# Altium integrated library ON Semi Transient Voltage Suppressors (TVS).IntLib: 730 symbols (part 9 of 17)
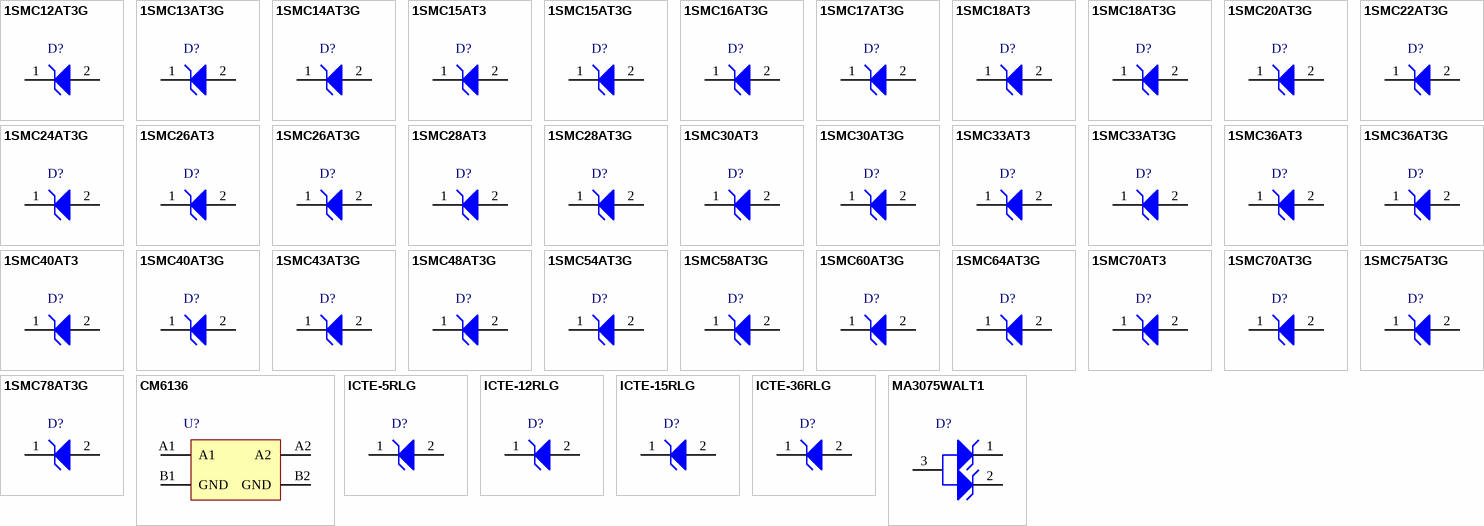
[diagram p26: symbols 1SMC12AT3G to MA3075WALT1]

## ICTE-15RLG
designator D?
1500 W Peak Power, Mosorb(TM) Zener Transient Voltage Suppressor, 2-Pin MOSORB, Pb-Free, Tape and Reel; Manufacturer: On Semiconductor; PartNumber: ICTE-15RLG; Direction: Unidirectional; IR Max (uA): 2; PPK Max (W): 1500; DatasheetVersion: Rev. 5; PackageVersion: Rev. D, 01/2002; PackageReference: MOSORB-2-41A-04; PackageDescription: 2-Pin, Axial Lead, Diameter 5.05 mm; Packing: Tape and Reel; RoHS: Pb-Free; Mounting Technology: Through Hole; ComponentLink1Description: Manufacturer URL; ComponentLink1URL: http://www.onsemi.com/; ComponentLink2Description: Datasheet; ComponentLink2URL: http://www.onsemi.com/pub_link/Collateral/1N6373-D.PDF; ComponentLink3Description: Package Specification; ComponentLink3URL: http://www.onsemi.com/pub_link/Collateral/41A-04.PDF
footprint ONSC-MOSORB-2-41A-04 (AXIAL, 2-Leads, Diameter 5.05mm)
pins: 1 K, 2 A

## ICTE-36RLG
designator D?
1500 W Peak Power, Mosorb(TM) Zener Transient Voltage Suppressor, 2-Pin MOSORB, Pb-Free, Tape and Reel; Manufacturer: On Semiconductor; PartNumber: ICTE-36RLG; Direction: Unidirectional; IR Max (uA): 2; PPK Max (W): 1500; DatasheetVersion: Rev. 5; PackageVersion: Rev. D, 01/2002; PackageReference: MOSORB-2-41A-04; PackageDescription: 2-Pin, Axial Lead, Diameter 5.05 mm; Packing: Tape and Reel; RoHS: Pb-Free; Mounting Technology: Through Hole; ComponentLink1Description: Manufacturer URL; ComponentLink1URL: http://www.onsemi.com/; ComponentLink2Description: Datasheet; ComponentLink2URL: http://www.onsemi.com/pub_link/Collateral/1N6373-D.PDF; ComponentLink3Description: Package Specification; ComponentLink3URL: http://www.onsemi.com/pub_link/Collateral/41A-04.PDF
footprint ONSC-MOSORB-2-41A-04 (AXIAL, 2-Leads, Diameter 5.05mm)
pins: 1 K, 2 A

## MA3075WALT1
designator D?
Zener Transient Voltage Suppressor, Dual Common Anode Zeners for ESD Protection, 2-Pin SOT-23, Tape and Reel; Manufacturer: On Semiconductor; PartNumber: MA3075WALT1; Direction: Unidirectional; PPK Max (W): 15; DatasheetVersion: Rev. 2; PackageVersion: Rev. AP, 11/2009; PackageReference: SOT-23-3-318-08; PackageDescription: 3-Pin Small Outline Transistor, Body 2.92 x 1.3 mm, Pitch 0.95 mm; Supplier 1: Digi-Key; Supplier Part Number 1: MA3075WALT1OS-ND; Packing: Tape and Reel; Mounting Technology: Surface Mount; ComponentLink1Description: Manufacturer URL; ComponentLink1URL: http://www.onsemi.com/; ComponentLink2Description: Datasheet; ComponentLink2URL: http://www.onsemi.com/pub_link/Collateral/MA3075WALT1-D.PDF; ComponentLink3Description: Package Specification; ComponentLink3URL: http://www.onsemi.cn/pub_link/Collateral/318-08.PDF
footprint ONSC-SOT-23-3-318-08_V (SOT23, 3-Leads, Body 2.92x1.3mm, Pitch 0.95mm)
pins: 1 K1, 2 K2, 3 A

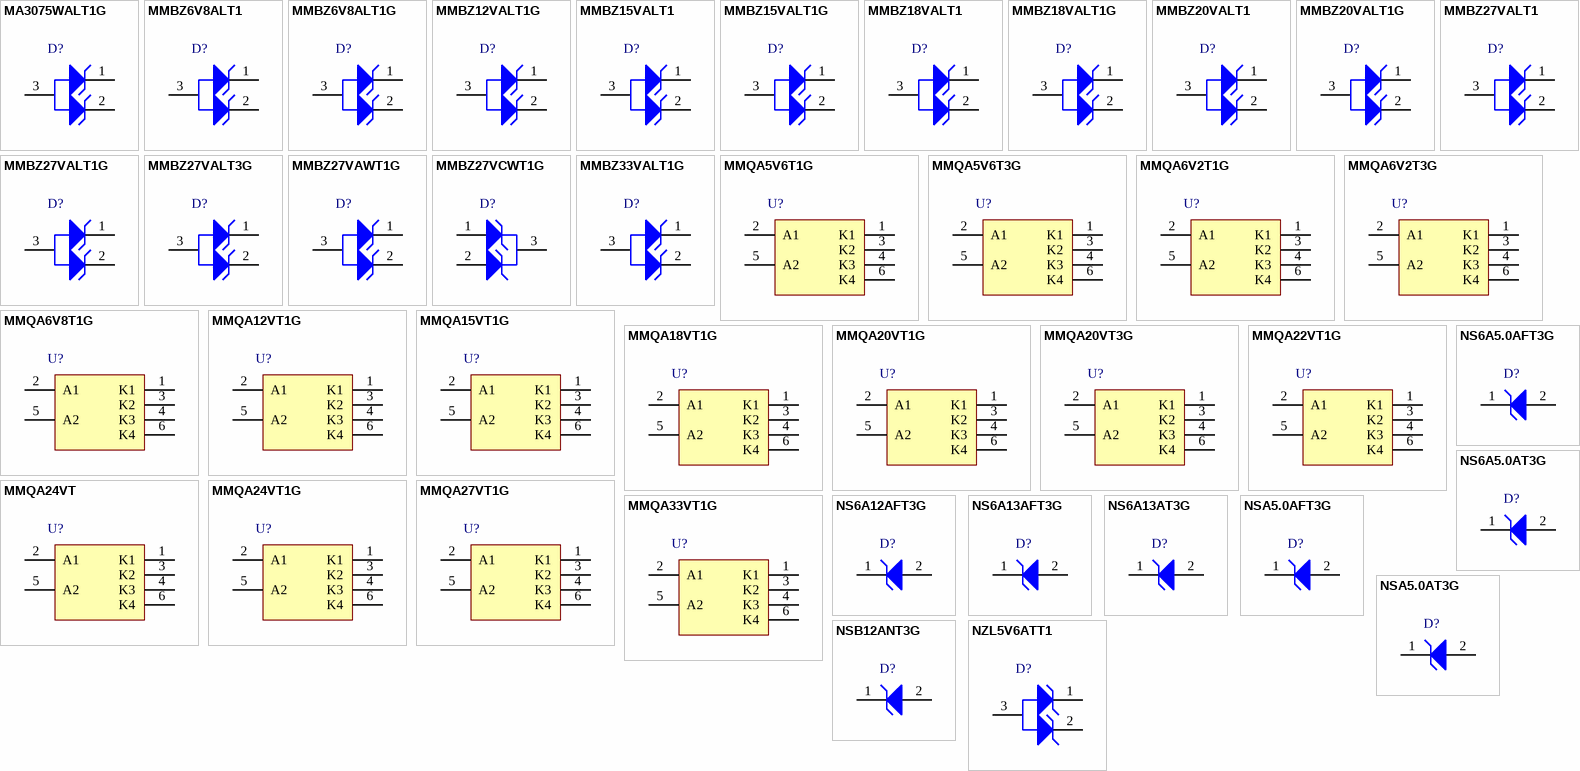
[diagram p9: symbols MA3075WALT1G to NZL5V6ATT1]

## MA3075WALT1G
designator D?
Zener Transient Voltage Suppressor, Dual Common Anode Zeners for ESD Protection, 2-Pin SOT-23, Pb-Free, Tape and Reel; Manufacturer: On Semiconductor; PartNumber: MA3075WALT1G; Direction: Unidirectional; PPK Max (W): 15; DatasheetVersion: Rev. 2; PackageVersion: Rev. AP, 11/2009; PackageReference: SOT-23-3-318-08; PackageDescription: 3-Pin Small Outline Transistor, Body 2.92 x 1.3 mm, Pitch 0.95 mm; Supplier 1: Digi-Key; Supplier Part Number 1: MA3075WALT1GOSTR-ND; Supplier 2: Digi-Key; Supplier Part Number 2: MA3075WALT1GOSCT-ND; Supplier 3: Digi-Key; Supplier Part Number 3: MA3075WALT1GOSDKR-ND; Supplier 4: Newark; Supplier Part Number 4: 32M0072; Supplier 5: Mouser; Supplier Part Number 5: 863-MA3075WALT1G; Packing: Tape and Reel; RoHS: Pb-Free; Mounting Technology: Surface Mount; ComponentLink1Description: Manufacturer URL; ComponentLink1URL: http://www.onsemi.com/; ComponentLink2Description: Datasheet; ComponentLink2URL: http://www.onsemi.com/pub_link/Collateral/MA3075WALT1-D.PDF; ComponentLink3Description: Package Specification; ComponentLink3URL: http://www.onsemi.cn/pub_link/Collateral/318-08.PDF
footprint ONSC-SOT-23-3-318-08_V (SOT23, 3-Leads, Body 2.92x1.3mm, Pitch 0.95mm)
pins: 1 K1, 2 K2, 3 A

## MMBZ6V8ALT1
designator D?
40 W Peak Power Zener Transient Voltage Suppressor, Dual Common Anode Zeners for ESD Protection, 3-Pin SOT-23, Tape and Reel; Manufacturer: On Semiconductor; PartNumber: MMBZ6V8ALT1; Direction: Unidirectional; IR Max (uA): 0.5; PPK Max (W): 24; V(BR) Typ (V): 6.8; DatasheetVersion: Rev. 13; PackageVersion: Rev. AP, 11/2009; PackageReference: SOT-23-3-318-08; PackageDescription: 3-Pin Small Outline Transistor, Body 2.92 x 1.3 mm, Pitch 0.95 mm; Supplier 1: Digi-Key; Supplier Part Number 1: MMBZ6V8ALT1OSTR-ND; Supplier 2: Digi-Key; Supplier Part Number 2: MMBZ6V8ALT1OSCT-ND; Packing: Tape and Reel; Mounting Technology: Surface Mount; ComponentLink1Description: Manufacturer URL; ComponentLink1URL: http://www.onsemi.com/; ComponentLink2Description: Datasheet; ComponentLink2URL: http://www.onsemi.com/pub_link/Collateral/MMBZ5V6ALT1-D.PDF; ComponentLink3Description: Package Specification; ComponentLink3URL: http://www.onsemi.cn/pub_link/Collateral/318-08.PDF
footprint ONSC-SOT-23-3-318-08_V (SOT23, 3-Leads, Body 2.92x1.3mm, Pitch 0.95mm)
pins: 1 K1, 2 K2, 3 A

## MMBZ6V8ALT1G
designator D?
40 W Peak Power Zener Transient Voltage Suppressor, Dual Common Anode Zeners for ESD Protection, 3-Pin SOT-23, Pb-Free, Tape and Reel; Manufacturer: On Semiconductor; PartNumber: MMBZ6V8ALT1G; Direction: Unidirectional; IR Max (uA): 0.5; PPK Max (W): 24; V(BR) Typ (V): 6.8; DatasheetVersion: Rev. 13; PackageVersion: Rev. AP, 11/2009; PackageReference: SOT-23-3-318-08; PackageDescription: 3-Pin Small Outline Transistor, Body 2.92 x 1.3 mm, Pitch 0.95 mm; Supplier 1: Digi-Key; Supplier Part Number 1: MMBZ6V8ALT1GOSTR-ND; Supplier 2: Digi-Key; Supplier Part Number 2: MMBZ6V8ALT1GOSCT-ND; Supplier 3: Digi-Key; Supplier Part Number 3: MMBZ6V8ALT1GOSDKR-ND; Supplier 4: Mouser; Supplier Part Number 4: 863-MMBZ6V8ALT1G; Packing: Tape and Reel; RoHS: Pb-Free; Mounting Technology: Surface Mount; ComponentLink1Description: Manufacturer URL; ComponentLink1URL: http://www.onsemi.com/; ComponentLink2Description: Datasheet; ComponentLink2URL: http://www.onsemi.com/pub_link/Collateral/MMBZ5V6ALT1-D.PDF; ComponentLink3Description: Package Specification; ComponentLink3URL: http://www.onsemi.cn/pub_link/Collateral/318-08.PDF
footprint ONSC-SOT-23-3-318-08_V (SOT23, 3-Leads, Body 2.92x1.3mm, Pitch 0.95mm)
pins: 1 K1, 2 K2, 3 A

## MMBZ12VALT1G
designator D?
40 W Peak Power Zener Transient Voltage Suppressor, Dual Common Anode Zeners for ESD Protection, 3-Pin SOT-23, Pb-Free, Tape and Reel; Manufacturer: On Semiconductor; PartNumber: MMBZ12VALT1G; Direction: Unidirectional; IR Max (uA): 0.2; PPK Max (W): 40; V(BR) Typ (V): 12; DatasheetVersion: Rev. 13; PackageVersion: Rev. AP, 11/2009; PackageReference: SOT-23-3-318-08; PackageDescription: 3-Pin Small Outline Transistor, Body 2.92 x 1.3 mm, Pitch 0.95 mm; Supplier 1: Digi-Key; Supplier Part Number 1: MMBZ12VALT1GOSTR-ND; Supplier 2: Digi-Key; Supplier Part Number 2: MMBZ12VALT1GOSCT-ND; Supplier 3: Digi-Key; Supplier Part Number 3: MMBZ12VALT1GOSDKR-ND; Supplier 4: Newark; Supplier Part Number 4: 45J1545; Supplier 5: Newark; Supplier Part Number 5: 10N9481; Supplier 6: Mouser; Supplier Part Number 6: 863-MMBZ12VALT1G; Packing: Tape and Reel; RoHS: Pb-Free; Mounting Technology: Surface Mount; ComponentLink1Description: Manufacturer URL; ComponentLink1URL: http://www.onsemi.com/; ComponentLink2Description: Datasheet; ComponentLink2URL: http://www.onsemi.com/pub_link/Collateral/MMBZ5V6ALT1-D.PDF; ComponentLink3Description: Package Specification; ComponentLink3URL: http://www.onsemi.cn/pub_link/Collateral/318-08.PDF
footprint ONSC-SOT-23-3-318-08_V (SOT23, 3-Leads, Body 2.92x1.3mm, Pitch 0.95mm)
pins: 1 K1, 2 K2, 3 A

## MMBZ15VALT1
designator D?
40 W Peak Power Zener Transient Voltage Suppressor, Dual Common Anode Zeners for ESD Protection, 3-Pin SOT-23, Tape and Reel; Manufacturer: On Semiconductor; PartNumber: MMBZ15VALT1; Direction: Unidirectional; IR Max (uA): 0.05; PPK Max (W): 40; V(BR) Typ (V): 15; DatasheetVersion: Rev. 13; PackageVersion: Rev. AP, 11/2009; PackageReference: SOT-23-3-318-08; PackageDescription: 3-Pin Small Outline Transistor, Body 2.92 x 1.3 mm, Pitch 0.95 mm; Supplier 1: Digi-Key; Supplier Part Number 1: MMBZ15VALT1OSCT-ND; Packing: Tape and Reel; Mounting Technology: Surface Mount; ComponentLink1Description: Manufacturer URL; ComponentLink1URL: http://www.onsemi.com/; ComponentLink2Description: Datasheet; ComponentLink2URL: http://www.onsemi.com/pub_link/Collateral/MMBZ5V6ALT1-D.PDF; ComponentLink3Description: Package Specification; ComponentLink3URL: http://www.onsemi.cn/pub_link/Collateral/318-08.PDF
footprint ONSC-SOT-23-3-318-08_V (SOT23, 3-Leads, Body 2.92x1.3mm, Pitch 0.95mm)
pins: 1 K1, 2 K2, 3 A

## MMBZ15VALT1G
designator D?
40 W Peak Power Zener Transient Voltage Suppressor, Dual Common Anode Zeners for ESD Protection, 3-Pin SOT-23, Pb-Free, Tape and Reel; Manufacturer: On Semiconductor; PartNumber: MMBZ15VALT1G; Direction: Unidirectional; IR Max (uA): 0.05; PPK Max (W): 40; V(BR) Typ (V): 15; DatasheetVersion: Rev. 13; PackageVersion: Rev. AP, 11/2009; PackageReference: SOT-23-3-318-08; PackageDescription: 3-Pin Small Outline Transistor, Body 2.92 x 1.3 mm, Pitch 0.95 mm; Supplier 1: Digi-Key; Supplier Part Number 1: MMBZ15VALT1GOSTR-ND; Supplier 2: Digi-Key; Supplier Part Number 2: MMBZ15VALT1GOSCT-ND; Supplier 3: Digi-Key; Supplier Part Number 3: MMBZ15VALT1GOSDKR-ND; Supplier 4: Farnell; Supplier Part Number 4: 1431226RL; Supplier 5: Farnell; Supplier Part Number 5: 2317792; Supplier 6: Newark; Supplier Part Number 6: 98H0759; Supplier 7: Newark; Supplier Part Number 7: 67R1347; Supplier 8: Mouser; Supplier Part Number 8: 863-MMBZ15VALT1G; Packing: Tape and Reel; RoHS: Pb-Free; Mounting Technology: Surface Mount; ComponentLink1Description: Manufacturer URL; ComponentLink1URL: http://www.onsemi.com/; ComponentLink2Description: Datasheet; ComponentLink2URL: http://www.onsemi.com/pub_link/Collateral/MMBZ5V6ALT1-D.PDF; ComponentLink3Description: Package Specification; ComponentLink3URL: http://www.onsemi.cn/pub_link/Collateral/318-08.PDF
footprint ONSC-SOT-23-3-318-08_V (SOT23, 3-Leads, Body 2.92x1.3mm, Pitch 0.95mm)
pins: 1 K1, 2 K2, 3 A

## MMBZ18VALT1
designator D?
40 W Peak Power Zener Transient Voltage Suppressor, Dual Common Anode Zeners for ESD Protection, 3-Pin SOT-23, Tape and Reel; Manufacturer: On Semiconductor; PartNumber: MMBZ18VALT1; Direction: Unidirectional; IR Max (uA): 0.05; PPK Max (W): 40; V(BR) Typ (V): 18; DatasheetVersion: Rev. 13; PackageVersion: Rev. AP, 11/2009; PackageReference: SOT-23-3-318-08; PackageDescription: 3-Pin Small Outline Transistor, Body 2.92 x 1.3 mm, Pitch 0.95 mm; Supplier 1: Digi-Key; Supplier Part Number 1: MMBZ18VALT1OS-ND; Packing: Tape and Reel; Mounting Technology: Surface Mount; ComponentLink1Description: Manufacturer URL; ComponentLink1URL: http://www.onsemi.com/; ComponentLink2Description: Datasheet; ComponentLink2URL: http://www.onsemi.com/pub_link/Collateral/MMBZ5V6ALT1-D.PDF; ComponentLink3Description: Package Specification; ComponentLink3URL: http://www.onsemi.cn/pub_link/Collateral/318-08.PDF
footprint ONSC-SOT-23-3-318-08_V (SOT23, 3-Leads, Body 2.92x1.3mm, Pitch 0.95mm)
pins: 1 K1, 2 K2, 3 A

## MMBZ18VALT1G
designator D?
40 W Peak Power Zener Transient Voltage Suppressor, Dual Common Anode Zeners for ESD Protection, 3-Pin SOT-23, Pb-Free, Tape and Reel; Manufacturer: On Semiconductor; PartNumber: MMBZ18VALT1G; Direction: Unidirectional; IR Max (uA): 0.05; PPK Max (W): 40; V(BR) Typ (V): 18; DatasheetVersion: Rev. 13; PackageVersion: Rev. AP, 11/2009; PackageReference: SOT-23-3-318-08; PackageDescription: 3-Pin Small Outline Transistor, Body 2.92 x 1.3 mm, Pitch 0.95 mm; Supplier 1: Digi-Key; Supplier Part Number 1: MMBZ18VALT1GOSTR-ND; Supplier 2: Digi-Key; Supplier Part Number 2: MMBZ18VALT1GOSCT-ND; Supplier 3: Digi-Key; Supplier Part Number 3: MMBZ18VALT1GOSDKR-ND; Supplier 4: Farnell; Supplier Part Number 4: 1431228; Supplier 5: Farnell; Supplier Part Number 5: 1431228RL; Supplier 6: Newark; Supplier Part Number 6: 98H0762; Supplier 7: Newark; Supplier Part Number 7: 10N9482; Supplier 8: Mouser; Supplier Part Number 8: 863-MMBZ18VALT1G; Packing: Tape and Reel; RoHS: Pb-Free; Mounting Technology: Surface Mount; ComponentLink1Description: Manufacturer URL; ComponentLink1URL: http://www.onsemi.com/; ComponentLink2Description: Datasheet; ComponentLink2URL: http://www.onsemi.com/pub_link/Collateral/MMBZ5V6ALT1-D.PDF; ComponentLink3Description: Package Specification; ComponentLink3URL: http://www.onsemi.cn/pub_link/Collateral/318-08.PDF
footprint ONSC-SOT-23-3-318-08_V (SOT23, 3-Leads, Body 2.92x1.3mm, Pitch 0.95mm)
pins: 1 K1, 2 K2, 3 A

## MMBZ20VALT1
designator D?
40 W Peak Power Zener Transient Voltage Suppressor, Dual Common Anode Zeners for ESD Protection, 3-Pin SOT-23, Tape and Reel; Manufacturer: On Semiconductor; PartNumber: MMBZ20VALT1; Direction: Unidirectional; IR Max (uA): 0.05; PPK Max (W): 40; V(BR) Typ (V): 20; DatasheetVersion: Rev. 13; PackageVersion: Rev. AP, 11/2009; PackageReference: SOT-23-3-318-08; PackageDescription: 3-Pin Small Outline Transistor, Body 2.92 x 1.3 mm, Pitch 0.95 mm; Supplier 1: Digi-Key; Supplier Part Number 1: MMBZ20VALT1OSCT-ND; Packing: Tape and Reel; Mounting Technology: Surface Mount; ComponentLink1Description: Manufacturer URL; ComponentLink1URL: http://www.onsemi.com/; ComponentLink2Description: Datasheet; ComponentLink2URL: http://www.onsemi.com/pub_link/Collateral/MMBZ5V6ALT1-D.PDF; ComponentLink3Description: Package Specification; ComponentLink3URL: http://www.onsemi.cn/pub_link/Collateral/318-08.PDF
footprint ONSC-SOT-23-3-318-08_V (SOT23, 3-Leads, Body 2.92x1.3mm, Pitch 0.95mm)
pins: 1 K1, 2 K2, 3 A

## MMBZ20VALT1G
designator D?
40 W Peak Power Zener Transient Voltage Suppressor, Dual Common Anode Zeners for ESD Protection, 3-Pin SOT-23, Pb-Free, Tape and Reel; Manufacturer: On Semiconductor; PartNumber: MMBZ20VALT1G; Direction: Unidirectional; IR Max (uA): 0.05; PPK Max (W): 40; V(BR) Typ (V): 20; DatasheetVersion: Rev. 13; PackageVersion: Rev. AP, 11/2009; PackageReference: SOT-23-3-318-08; PackageDescription: 3-Pin Small Outline Transistor, Body 2.92 x 1.3 mm, Pitch 0.95 mm; Supplier 1: Digi-Key; Supplier Part Number 1: MMBZ20VALT1GOSTR-ND; Supplier 2: Digi-Key; Supplier Part Number 2: MMBZ20VALT1GOSCT-ND; Supplier 3: Digi-Key; Supplier Part Number 3: MMBZ20VALT1GOSDKR-ND; Supplier 4: Farnell; Supplier Part Number 4: 1651641; Supplier 5: Farnell; Supplier Part Number 5: 1651641RL; Supplier 6: Newark; Supplier Part Number 6: 01M6734; Supplier 7: Newark; Supplier Part Number 7: 98H0763; Supplier 8: Mouser; Supplier Part Number 8: 863-MMBZ20VALT1G; Packing: Tape and Reel; RoHS: Pb-Free; Mounting Technology: Surface Mount; ComponentLink1Description: Manufacturer URL; ComponentLink1URL: http://www.onsemi.com/; ComponentLink2Description: Datasheet; ComponentLink2URL: http://www.onsemi.com/pub_link/Collateral/MMBZ5V6ALT1-D.PDF; ComponentLink3Description: Package Specification; ComponentLink3URL: http://www.onsemi.cn/pub_link/Collateral/318-08.PDF
footprint ONSC-SOT-23-3-318-08_V (SOT23, 3-Leads, Body 2.92x1.3mm, Pitch 0.95mm)
pins: 1 K1, 2 K2, 3 A

## MMBZ27VALT1
designator D?
40 W Peak Power Zener Transient Voltage Suppressor, Dual Common Anode Zeners for ESD Protection, 3-Pin SOT-23, Tape and Reel; Manufacturer: On Semiconductor; PartNumber: MMBZ27VALT1; Direction: Unidirectional; IR Max (uA): 0.05; PPK Max (W): 40; V(BR) Typ (V): 27; DatasheetVersion: Rev. 13; PackageVersion: Rev. AP, 11/2009; PackageReference: SOT-23-3-318-08; PackageDescription: 3-Pin Small Outline Transistor, Body 2.92 x 1.3 mm, Pitch 0.95 mm; Packing: Tape and Reel; Mounting Technology: Surface Mount; ComponentLink1Description: Manufacturer URL; ComponentLink1URL: http://www.onsemi.com/; ComponentLink2Description: Datasheet; ComponentLink2URL: http://www.onsemi.com/pub_link/Collateral/MMBZ5V6ALT1-D.PDF; ComponentLink3Description: Package Specification; ComponentLink3URL: http://www.onsemi.cn/pub_link/Collateral/318-08.PDF
footprint ONSC-SOT-23-3-318-08_V (SOT23, 3-Leads, Body 2.92x1.3mm, Pitch 0.95mm)
pins: 1 K1, 2 K2, 3 A

## MMBZ27VALT1G
designator D?
40 W Peak Power Zener Transient Voltage Suppressor, Dual Common Anode Zeners for ESD Protection, 3-Pin SOT-23, Pb-Free, Tape and Reel; Manufacturer: On Semiconductor; PartNumber: MMBZ27VALT1G; Direction: Unidirectional; IR Max (uA): 0.05; PPK Max (W): 40; V(BR) Typ (V): 27; DatasheetVersion: Rev. 13; PackageVersion: Rev. AP, 11/2009; PackageReference: SOT-23-3-318-08; PackageDescription: 3-Pin Small Outline Transistor, Body 2.92 x 1.3 mm, Pitch 0.95 mm; Supplier 1: Digi-Key; Supplier Part Number 1: MMBZ27VALT1GOSTR-ND; Supplier 2: Digi-Key; Supplier Part Number 2: MMBZ27VALT1GOSCT-ND; Supplier 3: Digi-Key; Supplier Part Number 3: MMBZ27VALT1GOSDKR-ND; Supplier 4: Farnell; Supplier Part Number 4: 1431229; Supplier 5: Farnell; Supplier Part Number 5: 1431229RL; Supplier 6: Newark; Supplier Part Number 6: 10N9483; Supplier 7: Newark; Supplier Part Number 7: 98H0765; Supplier 8: Mouser; Supplier Part Number 8: 863-MMBZ27VALT1G; Packing: Tape and Reel; RoHS: Pb-Free; Mounting Technology: Surface Mount; ComponentLink1Description: Manufacturer URL; ComponentLink1URL: http://www.onsemi.com/; ComponentLink2Description: Datasheet; ComponentLink2URL: http://www.onsemi.com/pub_link/Collateral/MMBZ5V6ALT1-D.PDF; ComponentLink3Description: Package Specification; ComponentLink3URL: http://www.onsemi.cn/pub_link/Collateral/318-08.PDF
footprint ONSC-SOT-23-3-318-08_V (SOT23, 3-Leads, Body 2.92x1.3mm, Pitch 0.95mm)
pins: 1 K1, 2 K2, 3 A

## MMBZ27VALT3G
designator D?
40 W Peak Power Zener Transient Voltage Suppressor, Dual Common Anode Zeners for ESD Protection, 3-Pin SOT-23, Pb-Free, Tape and Reel; Manufacturer: On Semiconductor; PartNumber: MMBZ27VALT3G; Direction: Unidirectional; IR Max (uA): 0.05; PPK Max (W): 40; V(BR) Typ (V): 27; DatasheetVersion: Rev. 13; PackageVersion: Rev. AP, 11/2009; PackageReference: SOT-23-3-318-08; PackageDescription: 3-Pin Small Outline Transistor, Body 2.92 x 1.3 mm, Pitch 0.95 mm; Supplier 1: Digi-Key; Supplier Part Number 1: MMBZ27VALT3G-ND; Supplier 2: Newark; Supplier Part Number 2: 50M2097; Supplier 3: Mouser; Supplier Part Number 3: 863-MMBZ27VALT3G; Packing: Tape and Reel; RoHS: Pb-Free; Mounting Technology: Surface Mount; ComponentLink1Description: Manufacturer URL; ComponentLink1URL: http://www.onsemi.com/; ComponentLink2Description: Datasheet; ComponentLink2URL: http://www.onsemi.com/pub_link/Collateral/MMBZ5V6ALT1-D.PDF; ComponentLink3Description: Package Specification; ComponentLink3URL: http://www.onsemi.cn/pub_link/Collateral/318-08.PDF
footprint ONSC-SOT-23-3-318-08_V (SOT23, 3-Leads, Body 2.92x1.3mm, Pitch 0.95mm)
pins: 1 K1, 2 K2, 3 A

## MMBZ27VAWT1G
designator D?
40 W Peak Power Zener Transient Voltage Suppressor, Dual Common Anode Zeners for ESD Protection, 3-Pin SC70, Pb-Free, Tape and Reel; Manufacturer: On Semiconductor; PartNumber: MMBZ27VAWT1G; Direction: Unidirectional; IR Max (uA): 0.05; PPK Max (W): 40; V(BR) Typ (V): 27; DatasheetVersion: Rev. 4; PackageVersion: Rev. N, 11/2008; PackageReference: SC-70-3-419-04; PackageDescription: 3-Pin Small Outline Transistor, Body 2 x 1.25 mm, Pitch 0.65 mm; Supplier 1: Digi-Key; Supplier Part Number 1: MMBZ27VAWT1G-ND; Supplier 2: Newark; Supplier Part Number 2: 01P4994; Supplier 3: Mouser; Supplier Part Number 3: 863-MMBZ27VAWT1G; Packing: Tape and Reel; RoHS: Pb-Free; Mounting Technology: Surface Mount; ComponentLink1Description: Manufacturer URL; ComponentLink1URL: http://www.onsemi.com/; ComponentLink2Description: Datasheet; ComponentLink2URL: http://www.onsemi.com/pub_link/Collateral/MMBZ27VAW-D.PDF; ComponentLink3Description: Package Specification; ComponentLink3URL: http://www.onsemi.cn/pub_link/Collateral/419-04.PDF
footprint ONSC-SC-70-3-419-04_V (SOT23, 3-Leads, Body 2x1.25mm, Pitch 0.65mm)
pins: 1 K1, 2 K2, 3 A

## MMBZ27VCWT1G
designator D?
40 W Peak Power Zener Transient Voltage Suppressor, Dual Common Cathode Zeners for ESD Protection, 3-Pin SC70, Pb-Free, Tape and Reel; Manufacturer: On Semiconductor; PartNumber: MMBZ27VCWT1G; Direction: Unidirectional; IR Max (uA): 0.05; PPK Max (W): 40; V(BR) Typ (V): 27; DatasheetVersion: Rev. 0; PackageVersion: Rev. N, 11/2008; PackageReference: SC-70-3-419-04; PackageDescription: 3-Pin Small Outline Transistor, Body 2 x 1.25 mm, Pitch 0.65 mm; Supplier 1: Digi-Key; Supplier Part Number 1: MMBZ27VCWT1G-ND; Supplier 2: Newark; Supplier Part Number 2: 01P4995; Supplier 3: Mouser; Supplier Part Number 3: 863-MMBZ27VCWT1G; Packing: Tape and Reel; RoHS: Pb-Free; Mounting Technology: Surface Mount; ComponentLink1Description: Manufacturer URL; ComponentLink1URL: http://www.onsemi.com/; ComponentLink2Description: Datasheet; ComponentLink2URL: http://www.onsemi.com/pub_link/Collateral/MMBZ27VCW-D.PDF; ComponentLink3Description: Package Specification; ComponentLink3URL: http://www.onsemi.cn/pub_link/Collateral/419-04.PDF
footprint ONSC-SC-70-3-419-04_V (SOT23, 3-Leads, Body 2x1.25mm, Pitch 0.65mm)
pins: 1 A1, 2 A2, 3 K

## MMBZ33VALT1G
designator D?
40 W Peak Power Zener Transient Voltage Suppressor, Dual Common Anode Zeners for ESD Protection, 3-Pin SOT-23, Pb-Free, Tape and Reel; Manufacturer: On Semiconductor; PartNumber: MMBZ33VALT1G; Direction: Unidirectional; IR Max (uA): 0.05; PPK Max (W): 40; V(BR) Typ (V): 33; DatasheetVersion: Rev. 13; PackageVersion: Rev. AP, 11/2009; PackageReference: SOT-23-3-318-08; PackageDescription: 3-Pin Small Outline Transistor, Body 2.92 x 1.3 mm, Pitch 0.95 mm; Supplier 1: Digi-Key; Supplier Part Number 1: MMBZ33VALT1GOSTR-ND; Supplier 2: Digi-Key; Supplier Part Number 2: MMBZ33VALT1GOSCT-ND; Supplier 3: Digi-Key; Supplier Part Number 3: MMBZ33VALT1GOSDKR-ND; Supplier 4: Farnell; Supplier Part Number 4: 1431231; Supplier 5: Farnell; Supplier Part Number 5: 1431231RL; Supplier 6: Farnell; Supplier Part Number 6: 2317785; Supplier 7: Newark; Supplier Part Number 7: 85W2815; Supplier 8: Newark; Supplier Part Number 8: 98H0767; Supplier 9: Mouser; Supplier Part Number 9: 863-MMBZ33VALT1G; Packing: Tape and Reel; RoHS: Pb-Free; Mounting Technology: Surface Mount; ComponentLink1Description: Manufacturer URL; ComponentLink1URL: http://www.onsemi.com/; ComponentLink2Description: Datasheet; ComponentLink2URL: http://www.onsemi.com/pub_link/Collateral/MMBZ5V6ALT1-D.PDF; ComponentLink3Description: Package Specification; ComponentLink3URL: http://www.onsemi.cn/pub_link/Collateral/318-08.PDF
footprint ONSC-SOT-23-3-318-08_V (SOT23, 3-Leads, Body 2.92x1.3mm, Pitch 0.95mm)
pins: 1 K1, 2 K2, 3 A

## MMQA5V6T1G
designator U?
Quad Monolithic Common Anode, Transient Voltage Suppressor for ESD Protection, 6-Pin SC-74, Pb-Free, Tape and Reel; Manufacturer: On Semiconductor; PartNumber: MMQA5V6T1G; Direction: Unidirectional; IR Max (uA): 2; V(BR) Typ (V): 5.6; DatasheetVersion: Rev. 10; PackageVersion: Rev. N, 06/2012; PackageReference: SC-74-6-318F-05; PackageDescription: 6-Pin Small Outline Transistor, Body 3 x 1.5 mm, Pitch 0.95 mm; Supplier 1: Digi-Key; Supplier Part Number 1: MMQA5V6T1GOSTR-ND; Supplier 2: Digi-Key; Supplier Part Number 2: MMQA5V6T1GOSCT-ND; Supplier 3: Digi-Key; Supplier Part Number 3: MMQA5V6T1GOSDKR-ND; Supplier 4: Farnell; Supplier Part Number 4: 1459113RL; Supplier 5: Newark; Supplier Part Number 5: 98H0804; Supplier 6: Mouser; Supplier Part Number 6: 863-MMQA5V6T1G; Packing: Tape and Reel; RoHS: Pb-Free; Mounting Technology: Surface Mount; ComponentLink1Description: Manufacturer URL; ComponentLink1URL: http://www.onsemi.com/; ComponentLink2Description: Datasheet; ComponentLink2URL: http://www.onsemi.com/pub_link/Collateral/MMQA-D.PDF; ComponentLink3Description: Package Specification; ComponentLink3URL: http://www.onsemi.com/pub_link/Collateral/318F-05.PDF
footprint ONSC-SC-74-6-318F-05_V (SOT23, 6-Leads, Body 3x1.5mm, Pitch 0.95mm)
pins: 1 K1, 2 A1, 3 K2, 4 K3, 5 A2, 6 K4

## MMQA5V6T3G
designator U?
Quad Monolithic Common Anode, Transient Voltage Suppressor for ESD Protection, 6-Pin SC-74, Pb-Free, Tape and Reel; Manufacturer: On Semiconductor; PartNumber: MMQA5V6T3G; Direction: Unidirectional; IR Max (uA): 2; V(BR) Typ (V): 5.6; DatasheetVersion: Rev. 10; PackageVersion: Rev. N, 06/2012; PackageReference: SC-74-6-318F-05; PackageDescription: 6-Pin Small Outline Transistor, Body 3 x 1.5 mm, Pitch 0.95 mm; Supplier 1: Digi-Key; Supplier Part Number 1: MMQA5V6T3G-ND; Supplier 2: Mouser; Supplier Part Number 2: 863-MMQA5V6T3G; Packing: Tape and Reel; RoHS: Pb-Free; Mounting Technology: Surface Mount; ComponentLink1Description: Manufacturer URL; ComponentLink1URL: http://www.onsemi.com/; ComponentLink2Description: Datasheet; ComponentLink2URL: http://www.onsemi.com/pub_link/Collateral/MMQA-D.PDF; ComponentLink3Description: Package Specification; ComponentLink3URL: http://www.onsemi.com/pub_link/Collateral/318F-05.PDF
footprint ONSC-SC-74-6-318F-05_V (SOT23, 6-Leads, Body 3x1.5mm, Pitch 0.95mm)
pins: 1 K1, 2 A1, 3 K2, 4 K3, 5 A2, 6 K4

## MMQA6V2T1G
designator U?
Quad Monolithic Common Anode, Transient Voltage Suppressor for ESD Protection, 6-Pin SC-74, Pb-Free, Tape and Reel; Manufacturer: On Semiconductor; PartNumber: MMQA6V2T1G; Direction: Unidirectional; IR Max (uA): 0.7; V(BR) Typ (V): 6.2; DatasheetVersion: Rev. 10; PackageVersion: Rev. N, 06/2012; PackageReference: SC-74-6-318F-05; PackageDescription: 6-Pin Small Outline Transistor, Body 3 x 1.5 mm, Pitch 0.95 mm; Supplier 1: Digi-Key; Supplier Part Number 1: MMQA6V2T1GOSTR-ND; Supplier 2: Digi-Key; Supplier Part Number 2: MMQA6V2T1GOSCT-ND; Supplier 3: Digi-Key; Supplier Part Number 3: MMQA6V2T1GOSDKR-ND; Supplier 4: Newark; Supplier Part Number 4: 45J1567; Supplier 5: Mouser; Supplier Part Number 5: 863-MMQA6V2T1G; Packing: Tape and Reel; RoHS: Pb-Free; Mounting Technology: Surface Mount; ComponentLink1Description: Manufacturer URL; ComponentLink1URL: http://www.onsemi.com/; ComponentLink2Description: Datasheet; ComponentLink2URL: http://www.onsemi.com/pub_link/Collateral/MMQA-D.PDF; ComponentLink3Description: Package Specification; ComponentLink3URL: http://www.onsemi.com/pub_link/Collateral/318F-05.PDF
footprint ONSC-SC-74-6-318F-05_V (SOT23, 6-Leads, Body 3x1.5mm, Pitch 0.95mm)
pins: 1 K1, 2 A1, 3 K2, 4 K3, 5 A2, 6 K4

## MMQA6V2T3G
designator U?
Quad Monolithic Common Anode, Transient Voltage Suppressor for ESD Protection, 6-Pin SC-74, Pb-Free, Tape and Reel; Manufacturer: On Semiconductor; PartNumber: MMQA6V2T3G; Direction: Unidirectional; IR Max (uA): 0.7; V(BR) Typ (V): 6.2; DatasheetVersion: Rev. 10; PackageVersion: Rev. N, 06/2012; PackageReference: SC-74-6-318F-05; PackageDescription: 6-Pin Small Outline Transistor, Body 3 x 1.5 mm, Pitch 0.95 mm; Supplier 1: Digi-Key; Supplier Part Number 1: MMQA6V2T3G-ND; Supplier 2: Mouser; Supplier Part Number 2: 863-MMQA6V2T3G; Packing: Tape and Reel; RoHS: Pb-Free; Mounting Technology: Surface Mount; ComponentLink1Description: Manufacturer URL; ComponentLink1URL: http://www.onsemi.com/; ComponentLink2Description: Datasheet; ComponentLink2URL: http://www.onsemi.com/pub_link/Collateral/MMQA-D.PDF; ComponentLink3Description: Package Specification; ComponentLink3URL: http://www.onsemi.com/pub_link/Collateral/318F-05.PDF
footprint ONSC-SC-74-6-318F-05_V (SOT23, 6-Leads, Body 3x1.5mm, Pitch 0.95mm)
pins: 1 K1, 2 A1, 3 K2, 4 K3, 5 A2, 6 K4

## MMQA6V8T1G
designator U?
Quad Monolithic Common Anode, Transient Voltage Suppressor for ESD Protection, 6-Pin SC-74, Pb-Free, Tape and Reel; Manufacturer: On Semiconductor; PartNumber: MMQA6V8T1G; Direction: Unidirectional; IR Max (uA): 0.5; V(BR) Typ (V): 6.8; DatasheetVersion: Rev. 10; PackageVersion: Rev. N, 06/2012; PackageReference: SC-74-6-318F-05; PackageDescription: 6-Pin Small Outline Transistor, Body 3 x 1.5 mm, Pitch 0.95 mm; Supplier 1: Digi-Key; Supplier Part Number 1: MMQA6V8T1GOSTR-ND; Supplier 2: Digi-Key; Supplier Part Number 2: MMQA6V8T1GOSCT-ND; Supplier 3: Digi-Key; Supplier Part Number 3: MMQA6V8T1GOSDKR-ND; Supplier 4: Mouser; Supplier Part Number 4: 863-MMQA6V8T1G; Packing: Tape and Reel; RoHS: Pb-Free; Mounting Technology: Surface Mount; ComponentLink1Description: Manufacturer URL; ComponentLink1URL: http://www.onsemi.com/; ComponentLink2Description: Datasheet; ComponentLink2URL: http://www.onsemi.com/pub_link/Collateral/MMQA-D.PDF; ComponentLink3Description: Package Specification; ComponentLink3URL: http://www.onsemi.com/pub_link/Collateral/318F-05.PDF
footprint ONSC-SC-74-6-318F-05_V (SOT23, 6-Leads, Body 3x1.5mm, Pitch 0.95mm)
pins: 1 K1, 2 A1, 3 K2, 4 K3, 5 A2, 6 K4

## MMQA12VT1G
designator U?
Quad Monolithic Common Anode, Transient Voltage Suppressor for ESD Protection, 6-Pin SC-74, Pb-Free, Tape and Reel; Manufacturer: On Semiconductor; PartNumber: MMQA12VT1G; Direction: Unidirectional; IR Max (uA): 0.075; V(BR) Typ (V): 12; DatasheetVersion: Rev. 10; PackageVersion: Rev. N, 06/2012; PackageReference: SC-74-6-318F-05; PackageDescription: 6-Pin Small Outline Transistor, Body 3 x 1.5 mm, Pitch 0.95 mm; Supplier 1: Digi-Key; Supplier Part Number 1: MMQA12VT1GOSTR-ND; Supplier 2: Digi-Key; Supplier Part Number 2: MMQA12VT1GOSCT-ND; Supplier 3: Digi-Key; Supplier Part Number 3: MMQA12VT1GOSDKR-ND; Supplier 4: Farnell; Supplier Part Number 4: 1899523; Supplier 5: Newark; Supplier Part Number 5: 09R9473; Supplier 6: Mouser; Supplier Part Number 6: 863-MMQA12VT1G; Packing: Tape and Reel; RoHS: Pb-Free; Mounting Technology: Surface Mount; ComponentLink1Description: Manufacturer URL; ComponentLink1URL: http://www.onsemi.com/; ComponentLink2Description: Datasheet; ComponentLink2URL: http://www.onsemi.com/pub_link/Collateral/MMQA-D.PDF; ComponentLink3Description: Package Specification; ComponentLink3URL: http://www.onsemi.com/pub_link/Collateral/318F-05.PDF
footprint ONSC-SC-74-6-318F-05_V (SOT23, 6-Leads, Body 3x1.5mm, Pitch 0.95mm)
pins: 1 K1, 2 A1, 3 K2, 4 K3, 5 A2, 6 K4

## MMQA15VT1G
designator U?
Quad Monolithic Common Anode, Transient Voltage Suppressor for ESD Protection, 6-Pin SC-74, Pb-Free, Tape and Reel; Manufacturer: On Semiconductor; PartNumber: MMQA15VT1G; Direction: Unidirectional; IR Max (uA): 0.075; V(BR) Typ (V): 15; DatasheetVersion: Rev. 10; PackageVersion: Rev. N, 06/2012; PackageReference: SC-74-6-318F-05; PackageDescription: 6-Pin Small Outline Transistor, Body 3 x 1.5 mm, Pitch 0.95 mm; Supplier 1: Digi-Key; Supplier Part Number 1: MMQA15VT1G-ND; Supplier 2: Mouser; Supplier Part Number 2: 863-MMQA15VT1G; Packing: Tape and Reel; RoHS: Pb-Free; Mounting Technology: Surface Mount; ComponentLink1Description: Manufacturer URL; ComponentLink1URL: http://www.onsemi.com/; ComponentLink2Description: Datasheet; ComponentLink2URL: http://www.onsemi.com/pub_link/Collateral/MMQA-D.PDF; ComponentLink3Description: Package Specification; ComponentLink3URL: http://www.onsemi.com/pub_link/Collateral/318F-05.PDF
footprint ONSC-SC-74-6-318F-05_V (SOT23, 6-Leads, Body 3x1.5mm, Pitch 0.95mm)
pins: 1 K1, 2 A1, 3 K2, 4 K3, 5 A2, 6 K4

## MMQA18VT1G
designator U?
Quad Monolithic Common Anode, Transient Voltage Suppressor for ESD Protection, 6-Pin SC-74, Pb-Free, Tape and Reel; Manufacturer: On Semiconductor; PartNumber: MMQA18VT1G; Direction: Unidirectional; IR Max (uA): 0.075; V(BR) Typ (V): 18; DatasheetVersion: Rev. 10; PackageVersion: Rev. N, 06/2012; PackageReference: SC-74-6-318F-05; PackageDescription: 6-Pin Small Outline Transistor, Body 3 x 1.5 mm, Pitch 0.95 mm; Supplier 1: Digi-Key; Supplier Part Number 1: MMQA18VT1GOSTR-ND; Supplier 2: Digi-Key; Supplier Part Number 2: MMQA18VT1GOSCT-ND; Supplier 3: Digi-Key; Supplier Part Number 3: MMQA18VT1GOSDKR-ND; Supplier 4: Newark; Supplier Part Number 4: 45J1564; Supplier 5: Mouser; Supplier Part Number 5: 863-MMQA18VT1G; Packing: Tape and Reel; RoHS: Pb-Free; Mounting Technology: Surface Mount; ComponentLink1Description: Manufacturer URL; ComponentLink1URL: http://www.onsemi.com/; ComponentLink2Description: Datasheet; ComponentLink2URL: http://www.onsemi.com/pub_link/Collateral/MMQA-D.PDF; ComponentLink3Description: Package Specification; ComponentLink3URL: http://www.onsemi.com/pub_link/Collateral/318F-05.PDF
footprint ONSC-SC-74-6-318F-05_V (SOT23, 6-Leads, Body 3x1.5mm, Pitch 0.95mm)
pins: 1 K1, 2 A1, 3 K2, 4 K3, 5 A2, 6 K4

## MMQA20VT1G
designator U?
Quad Monolithic Common Anode, Transient Voltage Suppressor for ESD Protection, 6-Pin SC-74, Pb-Free, Tape and Reel; Manufacturer: On Semiconductor; PartNumber: MMQA20VT1G; Direction: Unidirectional; IR Max (uA): 0.075; V(BR) Typ (V): 20; DatasheetVersion: Rev. 10; PackageVersion: Rev. N, 06/2012; PackageReference: SC-74-6-318F-05; PackageDescription: 6-Pin Small Outline Transistor, Body 3 x 1.5 mm, Pitch 0.95 mm; Supplier 1: Digi-Key; Supplier Part Number 1: MMQA20VT1GOSTR-ND; Supplier 2: Digi-Key; Supplier Part Number 2: MMQA20VT1GOSCT-ND; Supplier 3: Digi-Key; Supplier Part Number 3: MMQA20VT1GOSDKR-ND; Supplier 4: Mouser; Supplier Part Number 4: 863-MMQA20VT1G; Packing: Tape and Reel; RoHS: Pb-Free; Mounting Technology: Surface Mount; ComponentLink1Description: Manufacturer URL; ComponentLink1URL: http://www.onsemi.com/; ComponentLink2Description: Datasheet; ComponentLink2URL: http://www.onsemi.com/pub_link/Collateral/MMQA-D.PDF; ComponentLink3Description: Package Specification; ComponentLink3URL: http://www.onsemi.com/pub_link/Collateral/318F-05.PDF
footprint ONSC-SC-74-6-318F-05_V (SOT23, 6-Leads, Body 3x1.5mm, Pitch 0.95mm)
pins: 1 K1, 2 A1, 3 K2, 4 K3, 5 A2, 6 K4

## MMQA20VT3G
designator U?
Quad Monolithic Common Anode, Transient Voltage Suppressor for ESD Protection, 6-Pin SC-74, Pb-Free, Tape and Reel; Manufacturer: On Semiconductor; PartNumber: MMQA20VT3G; Direction: Unidirectional; IR Max (uA): 0.075; V(BR) Typ (V): 20; DatasheetVersion: Rev. 10; PackageVersion: Rev. N, 06/2012; PackageReference: SC-74-6-318F-05; PackageDescription: 6-Pin Small Outline Transistor, Body 3 x 1.5 mm, Pitch 0.95 mm; Supplier 1: Digi-Key; Supplier Part Number 1: MMQA20VT3G-ND; Supplier 2: Mouser; Supplier Part Number 2: 863-MMQA20VT3G; Packing: Tape and Reel; RoHS: Pb-Free; Mounting Technology: Surface Mount; ComponentLink1Description: Manufacturer URL; ComponentLink1URL: http://www.onsemi.com/; ComponentLink2Description: Datasheet; ComponentLink2URL: http://www.onsemi.com/pub_link/Collateral/MMQA-D.PDF; ComponentLink3Description: Package Specification; ComponentLink3URL: http://www.onsemi.com/pub_link/Collateral/318F-05.PDF
footprint ONSC-SC-74-6-318F-05_V (SOT23, 6-Leads, Body 3x1.5mm, Pitch 0.95mm)
pins: 1 K1, 2 A1, 3 K2, 4 K3, 5 A2, 6 K4

## MMQA22VT1G
designator U?
Quad Monolithic Common Anode, Transient Voltage Suppressor for ESD Protection, 6-Pin SC-74, Pb-Free, Tape and Reel; Manufacturer: On Semiconductor; PartNumber: MMQA22VT1G; Direction: Unidirectional; IR Max (uA): 0.075; V(BR) Typ (V): 22; DatasheetVersion: Rev. 10; PackageVersion: Rev. N, 06/2012; PackageReference: SC-74-6-318F-05; PackageDescription: 6-Pin Small Outline Transistor, Body 3 x 1.5 mm, Pitch 0.95 mm; Supplier 1: Digi-Key; Supplier Part Number 1: MMQA22VT1G-ND; Supplier 2: Mouser; Supplier Part Number 2: 863-MMQA22VT1G; Packing: Tape and Reel; RoHS: Pb-Free; Mounting Technology: Surface Mount; ComponentLink1Description: Manufacturer URL; ComponentLink1URL: http://www.onsemi.com/; ComponentLink2Description: Datasheet; ComponentLink2URL: http://www.onsemi.com/pub_link/Collateral/MMQA-D.PDF; ComponentLink3Description: Package Specification; ComponentLink3URL: http://www.onsemi.com/pub_link/Collateral/318F-05.PDF
footprint ONSC-SC-74-6-318F-05_V (SOT23, 6-Leads, Body 3x1.5mm, Pitch 0.95mm)
pins: 1 K1, 2 A1, 3 K2, 4 K3, 5 A2, 6 K4

## MMQA24VT
designator U?
Quad Monolithic Common Anode, Transient Voltage Suppressor for ESD Protection, 6-Pin SC-74, Tape and Reel; Manufacturer: On Semiconductor; PartNumber: MMQA24VT; Direction: Unidirectional; IR Max (uA): 0.075; V(BR) Typ (V): 24; DatasheetVersion: Rev. 10; PackageVersion: Rev. N, 06/2012; PackageReference: SC-74-6-318F-05; PackageDescription: 6-Pin Small Outline Transistor, Body 3 x 1.5 mm, Pitch 0.95 mm; Packing: Tape and Reel; Mounting Technology: Surface Mount; ComponentLink1Description: Manufacturer URL; ComponentLink1URL: http://www.onsemi.com/; ComponentLink2Description: Datasheet; ComponentLink2URL: http://www.onsemi.com/pub_link/Collateral/MMQA-D.PDF; ComponentLink3Description: Package Specification; ComponentLink3URL: http://www.onsemi.com/pub_link/Collateral/318F-05.PDF
footprint ONSC-SC-74-6-318F-05_V (SOT23, 6-Leads, Body 3x1.5mm, Pitch 0.95mm)
pins: 1 K1, 2 A1, 3 K2, 4 K3, 5 A2, 6 K4

## MMQA24VT1G
designator U?
Quad Monolithic Common Anode, Transient Voltage Suppressor for ESD Protection, 6-Pin SC-74, Pb-Free, Tape and Reel; Manufacturer: On Semiconductor; PartNumber: MMQA24VT1G; Direction: Unidirectional; IR Max (uA): 0.075; V(BR) Typ (V): 24; DatasheetVersion: Rev. 10; PackageVersion: Rev. N, 06/2012; PackageReference: SC-74-6-318F-05; PackageDescription: 6-Pin Small Outline Transistor, Body 3 x 1.5 mm, Pitch 0.95 mm; Supplier 1: Digi-Key; Supplier Part Number 1: MMQA24VT1GOSTR-ND; Supplier 2: Digi-Key; Supplier Part Number 2: MMQA24VT1GOSCT-ND; Supplier 3: Newark; Supplier Part Number 3: 26K4559; Supplier 4: Mouser; Supplier Part Number 4: 863-MMQA24VT1G; Packing: Tape and Reel; RoHS: Pb-Free; Mounting Technology: Surface Mount; ComponentLink1Description: Manufacturer URL; ComponentLink1URL: http://www.onsemi.com/; ComponentLink2Description: Datasheet; ComponentLink2URL: http://www.onsemi.com/pub_link/Collateral/MMQA-D.PDF; ComponentLink3Description: Package Specification; ComponentLink3URL: http://www.onsemi.com/pub_link/Collateral/318F-05.PDF
footprint ONSC-SC-74-6-318F-05_V (SOT23, 6-Leads, Body 3x1.5mm, Pitch 0.95mm)
pins: 1 K1, 2 A1, 3 K2, 4 K3, 5 A2, 6 K4

## MMQA27VT1G
designator U?
Quad Monolithic Common Anode, Transient Voltage Suppressor for ESD Protection, 6-Pin SC-74, Pb-Free, Tape and Reel; Manufacturer: On Semiconductor; PartNumber: MMQA27VT1G; Direction: Unidirectional; IR Max (uA): 0.075; V(BR) Typ (V): 27; DatasheetVersion: Rev. 10; PackageVersion: Rev. N, 06/2012; PackageReference: SC-74-6-318F-05; PackageDescription: 6-Pin Small Outline Transistor, Body 3 x 1.5 mm, Pitch 0.95 mm; Supplier 1: Digi-Key; Supplier Part Number 1: MMQA27VT1GOSTR-ND; Supplier 2: Digi-Key; Supplier Part Number 2: MMQA27VT1GOSCT-ND; Supplier 3: Digi-Key; Supplier Part Number 3: MMQA27VT1GOSDKR-ND; Supplier 4: Newark; Supplier Part Number 4: 26K4560; Supplier 5: Mouser; Supplier Part Number 5: 863-MMQA27VT1G; Packing: Tape and Reel; RoHS: Pb-Free; Mounting Technology: Surface Mount; ComponentLink1Description: Manufacturer URL; ComponentLink1URL: http://www.onsemi.com/; ComponentLink2Description: Datasheet; ComponentLink2URL: http://www.onsemi.com/pub_link/Collateral/MMQA-D.PDF; ComponentLink3Description: Package Specification; ComponentLink3URL: http://www.onsemi.com/pub_link/Collateral/318F-05.PDF
footprint ONSC-SC-74-6-318F-05_V (SOT23, 6-Leads, Body 3x1.5mm, Pitch 0.95mm)
pins: 1 K1, 2 A1, 3 K2, 4 K3, 5 A2, 6 K4

## MMQA33VT1G
designator U?
Quad Monolithic Common Anode, Transient Voltage Suppressor for ESD Protection, 6-Pin SC-74, Pb-Free, Tape and Reel; Manufacturer: On Semiconductor; PartNumber: MMQA33VT1G; Direction: Unidirectional; IR Max (uA): 0.075; V(BR) Typ (V): 33; DatasheetVersion: Rev. 10; PackageVersion: Rev. N, 06/2012; PackageReference: SC-74-6-318F-05; PackageDescription: 6-Pin Small Outline Transistor, Body 3 x 1.5 mm, Pitch 0.95 mm; Supplier 1: Digi-Key; Supplier Part Number 1: MMQA33VT1GOSTR-ND; Supplier 2: Digi-Key; Supplier Part Number 2: MMQA33VT1GOSCT-ND; Supplier 3: Digi-Key; Supplier Part Number 3: MMQA33VT1GOSDKR-ND; Supplier 4: Farnell; Supplier Part Number 4: 2317786; Supplier 5: Farnell; Supplier Part Number 5: 1886877; Supplier 6: Newark; Supplier Part Number 6: 09R9476; Supplier 7: Newark; Supplier Part Number 7: 42K1365; Supplier 8: Mouser; Supplier Part Number 8: 863-MMQA33VT1G; Packing: Tape and Reel; RoHS: Pb-Free; Mounting Technology: Surface Mount; ComponentLink1Description: Manufacturer URL; ComponentLink1URL: http://www.onsemi.com/; ComponentLink2Description: Datasheet; ComponentLink2URL: http://www.onsemi.com/pub_link/Collateral/MMQA-D.PDF; ComponentLink3Description: Package Specification; ComponentLink3URL: http://www.onsemi.com/pub_link/Collateral/318F-05.PDF
footprint ONSC-SC-74-6-318F-05_V (SOT23, 6-Leads, Body 3x1.5mm, Pitch 0.95mm)
pins: 1 K1, 2 A1, 3 K2, 4 K3, 5 A2, 6 K4

## NS6A5.0AFT3G
designator D?
600 W Peak Power Zener Transient Voltage Suppressor, Unidirectional, 2-Pin SMA-FL, Pb-Free, Tape and Reel; Manufacturer: On Semiconductor; PartNumber: NS6A5.0AFT3G; IR Max (uA): 800; PPK Max (W): 600; V(BR) Typ (V): 6.7; DatasheetVersion: Rev. 0; PackageVersion: Rev. O, 03/2011; PackageReference: SMA-FL-2-403AA-01; PackageDescription: 2-Pin Small Molded Package, Body 2.6 x 4.3 mm; Supplier 1: Newark; Supplier Part Number 1: 72W2317; Supplier 2: Mouser; Supplier Part Number 2: 863-NS6A5.0AFT3G; Direction: Unidirectional; Packing: Tape and Reel; RoHS: Pb-Free; Mounting Technology: Surface Mount; ComponentLink1Description: Manufacturer URL; ComponentLink1URL: http://www.onsemi.com/; ComponentLink2Description: Datasheet; ComponentLink2URL: http://www.onsemi.com/pub_link/Collateral/NS6A5.0AF-D.PDF; ComponentLink3Description: Package Specification; ComponentLink3URL: http://www.onsemi.com/pub_link/Collateral/403AA.PDF
footprint ONSC-SMA-FL-2-403AA-01_V (Molded, 2-Leads, Body 4.6x2.8mm)
pins: 1 K, 2 A

## NS6A5.0AT3G
designator D?
600 W Peak Power Zener Transient Voltage Suppressor, Unidirectional, 2-Pin SMA, Pb-Free, Tape and Reel; Manufacturer: On Semiconductor; PartNumber: NS6A5.0AT3G; IR Max (uA): 800; PPK Max (W): 600; V(BR) Typ (V): 6.7; DatasheetVersion: Rev. 1; PackageVersion: Rev. F, 11/2008; PackageReference: SMA-2-403D-02_F; PackageDescription: 2-Pin Small Molded Package, J-Bend Lead, Body 2.605 x 4.315 mm; Supplier 1: Digi-Key; Supplier Part Number 1: NS6A5.0AT3G-ND; Supplier 2: Newark; Supplier Part Number 2: 46P8329; Supplier 3: Mouser; Supplier Part Number 3: 863-NS6A5.0AT3G; Direction: Unidirectional; Packing: Tape and Reel; RoHS: Pb-Free; Mounting Technology: Surface Mount; ComponentLink1Description: Manufacturer URL; ComponentLink1URL: http://www.onsemi.com/; ComponentLink2Description: Datasheet; ComponentLink2URL: http://www.onsemi.com/pub_link/Collateral/NS6A5.0A-D.PDF; ComponentLink3Description: Package Specification; ComponentLink3URL: http://www.onsemi.com/pub_link/Collateral/1SMA5913BT3-D.PDF
footprint ONSC-SMA-2-403D-02_F_V (Molded, 2-Leads, Body 4.32x2.6mm)
pins: 1 K, 2 A

## NS6A12AFT3G
designator D?
600 W Peak Power Zener Transient Voltage Suppressor, Unidirectional, 2-Pin SMA-FL, Pb-Free, Tape and Reel; Manufacturer: On Semiconductor; PartNumber: NS6A12AFT3G; IR Max (uA): 0.5; PPK Max (W): 600; V(BR) Typ (V): 14; DatasheetVersion: Rev. 0; PackageVersion: Rev. O, 03/2011; PackageReference: SMA-FL-2-403AA-01; PackageDescription: 2-Pin Small Molded Package, Body 2.6 x 4.3 mm; Supplier 1: Newark; Supplier Part Number 1: 72W2315; Supplier 2: Mouser; Supplier Part Number 2: 863-NS6A12AFT3G; Direction: Unidirectional; Packing: Tape and Reel; RoHS: Pb-Free; Mounting Technology: Surface Mount; ComponentLink1Description: Manufacturer URL; ComponentLink1URL: http://www.onsemi.com/; ComponentLink2Description: Datasheet; ComponentLink2URL: http://www.onsemi.com/pub_link/Collateral/NS6A5.0AF-D.PDF; ComponentLink3Description: Package Specification; ComponentLink3URL: http://www.onsemi.com/pub_link/Collateral/403AA.PDF
footprint ONSC-SMA-FL-2-403AA-01_V (Molded, 2-Leads, Body 4.6x2.8mm)
pins: 1 K, 2 A

## NS6A13AFT3G
designator D?
600 W Peak Power Zener Transient Voltage Suppressor, Unidirectional, 2-Pin SMA-FL, Pb-Free, Tape and Reel; Manufacturer: On Semiconductor; PartNumber: NS6A13AFT3G; IR Max (uA): 5; PPK Max (W): 600; V(BR) Typ (V): 15.15; DatasheetVersion: Rev. 0; PackageVersion: Rev. O, 03/2011; PackageReference: SMA-FL-2-403AA-01; PackageDescription: 2-Pin Small Molded Package, Body 2.6 x 4.3 mm; Supplier 1: Newark; Supplier Part Number 1: 72W2316; Supplier 2: Mouser; Supplier Part Number 2: 863-NS6A13AFT3G; Direction: Unidirectional; Packing: Tape and Reel; RoHS: Pb-Free; Mounting Technology: Surface Mount; ComponentLink1Description: Manufacturer URL; ComponentLink1URL: http://www.onsemi.com/; ComponentLink2Description: Datasheet; ComponentLink2URL: http://www.onsemi.com/pub_link/Collateral/NS6A5.0AF-D.PDF; ComponentLink3Description: Package Specification; ComponentLink3URL: http://www.onsemi.com/pub_link/Collateral/403AA.PDF
footprint ONSC-SMA-FL-2-403AA-01_V (Molded, 2-Leads, Body 4.6x2.8mm)
pins: 1 K, 2 A

## NS6A13AT3G
designator D?
600 W Peak Power Zener Transient Voltage Suppressor, Unidirectional, 2-Pin SMA, Pb-Free, Tape and Reel; Manufacturer: On Semiconductor; PartNumber: NS6A13AT3G; IR Max (uA): 5; PPK Max (W): 600; V(BR) Typ (V): 15.15; DatasheetVersion: Rev. 1; PackageVersion: Rev. F, 11/2008; PackageReference: SMA-2-403D-02_F; PackageDescription: 2-Pin Small Molded Package, J-Bend Lead, Body 2.605 x 4.315 mm; Supplier 1: Digi-Key; Supplier Part Number 1: NS6A13AT3G-ND; Supplier 2: Mouser; Supplier Part Number 2: 863-NS6A13AT3G; Direction: Unidirectional; Packing: Tape and Reel; RoHS: Pb-Free; Mounting Technology: Surface Mount; ComponentLink1Description: Manufacturer URL; ComponentLink1URL: http://www.onsemi.com/; ComponentLink2Description: Datasheet; ComponentLink2URL: http://www.onsemi.com/pub_link/Collateral/NS6A13A-D.PDF; ComponentLink3Description: Package Specification; ComponentLink3URL: http://www.onsemi.com/pub_link/Collateral/1SMA5913BT3-D.PDF
footprint ONSC-SMA-2-403D-02_F_V (Molded, 2-Leads, Body 4.32x2.6mm)
pins: 1 K, 2 A

## NSA5.0AFT3G
designator D?
400 W Peak Power Zener Transient Voltage Suppressor, Unidirectional, 2-Pin SMA, Pb-Free, Tape and Reel; Manufacturer: On Semiconductor; PartNumber: NSA5.0AFT3G; IR Max (uA): 400; V(BR) Typ (V): 6.7; DatasheetVersion: Rev. 0; PackageVersion: Rev. O, 03/2011; PackageReference: SMA-FL-2-403AA-01; PackageDescription: 2-Pin Small Molded Package, Body 2.6 x 4.3 mm; Supplier 1: Newark; Supplier Part Number 1: 76T6689; Supplier 2: Mouser; Supplier Part Number 2: 863-NSA5.0AFT3G; Direction: Unidirectional; Packing: Tape and Reel; PPK Max (W): 400; RoHS: Pb-Free; Mounting Technology: Surface Mount; ComponentLink1Description: Manufacturer URL; ComponentLink1URL: http://www.onsemi.com/; ComponentLink2Description: Datasheet; ComponentLink2URL: http://www.onsemi.com/pub_link/Collateral/NSA5.0AF-D.PDF; ComponentLink3Description: Package Specification; ComponentLink3URL: http://www.onsemi.com/pub_link/Collateral/403AA.PDF
footprint ONSC-SMA-FL-2-403AA-01_V (Molded, 2-Leads, Body 4.6x2.8mm)
pins: 1 K, 2 A

## NSA5.0AT3G
designator D?
400 W Peak Power Zener Transient Voltage Suppressor, Unidirectional, 2-Pin SMA, Pb-Free, Tape and Reel; Manufacturer: On Semiconductor; PartNumber: NSA5.0AT3G; IR Max (uA): 400; V(BR) Typ (V): 6.7; DatasheetVersion: Rev. 1; PackageVersion: Rev. G, 07/2012; PackageReference: SMA-2-403D-02; PackageDescription: 2-Pin Small Molded Package, J-Bend Lead, Body 2.605 x 4.315 mm; Supplier 1: Digi-Key; Supplier Part Number 1: NSA5.0AT3G-ND; Supplier 2: Newark; Supplier Part Number 2: 95M6970; Supplier 3: Mouser; Supplier Part Number 3: 863-NSA5.0AT3G; Direction: Unidirectional; Packing: Tape and Reel; PPK Max (W): 400; RoHS: Pb-Free; Mounting Technology: Surface Mount; ComponentLink1Description: Manufacturer URL; ComponentLink1URL: http://www.onsemi.com/; ComponentLink2Description: Datasheet; ComponentLink2URL: http://www.onsemi.com/pub_link/Collateral/NSA5.0A-D.PDF; ComponentLink3Description: Package Specification; ComponentLink3URL: http://www.onsemi.com/pub_link/Collateral/403D-02.PDF
footprint ONSC-SMA-2-403D-02_V (Molded, 2-Leads, Body 4.57x2.92mm)
pins: 1 K, 2 A

## NSB12ANT3G
designator D?
600 W Peak Power Zener Transient Voltage Suppressor, Unidirectional, 2-Pin SMB, Pb-Free, Tape and Reel; Manufacturer: On Semiconductor; PartNumber: NSB12ANT3G; IR Max (uA): 5; PPK Max (W): 600; V(BR) Typ (V): 13.75; DatasheetVersion: Rev. F; PackageVersion: Rev. F, 11/2005; PackageReference: SMB-2-403A-03_F; PackageDescription: 2-Pin Small Molded Package, J-Bend Lead, Body 4.33 x 3.625 mm; Supplier 1: Digi-Key; Supplier Part Number 1: NSB12ANT3G-ND; Supplier 2: Newark; Supplier Part Number 2: 95M6971; Supplier 3: Mouser; Supplier Part Number 3: 863-NSB12ANT3G; Direction: Unidirectional; Packing: Tape and Reel; RoHS: Pb-Free; Mounting Technology: Surface Mount; ComponentLink1Description: Manufacturer URL; ComponentLink1URL: http://www.onsemi.com/; ComponentLink2Description: Datasheet; ComponentLink2URL: http://www.onsemi.com/pub_link/Collateral/NSB12A-D.PDF; ComponentLink3Description: Package Specification; ComponentLink3URL: http://www.onsemi.com/pub_link/Collateral/NSB12A-D.PDF
footprint ONSC-SMB-2-403A-03_F_V (SOJ, 2-Leads, Body 4.6x3.95mm)
pins: 1 K, 2 A